# EAGLE library part RPI (library CameraTags)
Pi Header with different package variations
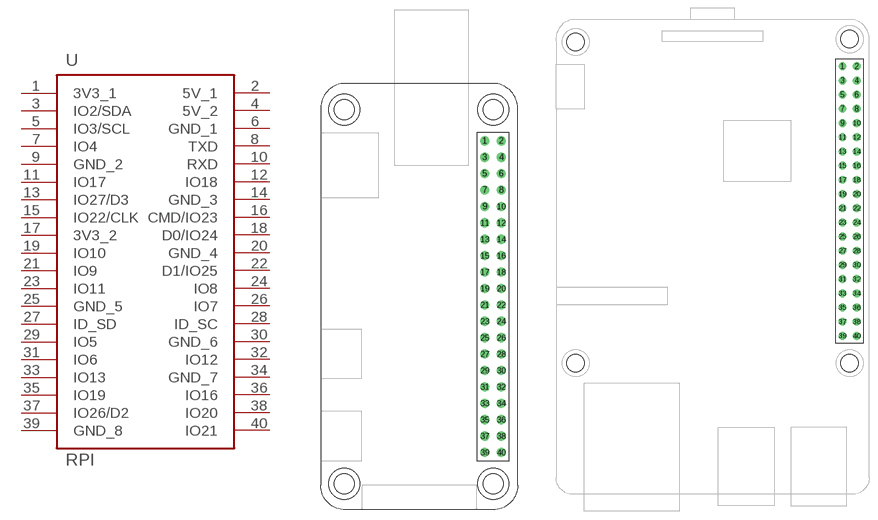
[diagram p14: symbol with the pads of PI_ZERO_W; footprints PI_ZERO_W, PI_3B]

Designator prefix U

## RPIPI_ZERO  [PI_ZERO_W]
1  3V3_1
2  5V_1
3  IO2/SDA
4  5V_2
5  IO3/SCL
6  GND_1
7  IO4
8  TXD
9  GND_2
10  RXD
11  IO17
12  IO18
13  IO27/D3
14  GND_3
15  IO22/CLK
16  CMD/IO23
17  3V3_2
18  D0/IO24
19  IO10
20  GND_4
21  IO9
22  D1/IO25
23  IO11
24  IO8
25  GND_5
26  IO7
27  ID_SD
28  ID_SC
29  IO5
30  GND_6
31  IO6
32  IO12
33  IO13
34  GND_7
35  IO19
36  IO16
37  IO26/D2
38  IO20
39  GND_8
40  IO21

## RPIPI_3B+  [PI_3B]
Pads as for PI_ZERO_W

## RPIPI_3A+  [PI_3A+]
Pads as for PI_ZERO_W

## Footprint PI_ZERO_W (pad centres in mm)
Raspberry Pi Zero
drill 0.8 pad 1.422: 1 -1.27,24.13; 2 1.27,24.13; 3 -1.27,21.59; 4 1.27,21.59; 5 -1.27,19.05; 6 1.27,19.05; 7 -1.27,16.51; 8 1.27,16.51; 9 -1.27,13.97; 10 1.27,13.97; 11 -1.27,11.43; 12 1.27,11.43; 13 -1.27,8.89; 14 1.27,8.89; 15 -1.27,6.35; 16 1.27,6.35; 17 -1.27,3.81; 18 1.27,3.81; 19 -1.27,1.27; 20 1.27,1.27; 21 -1.27,-1.27; 22 1.27,-1.27; 23 -1.27,-3.81; 24 1.27,-3.81; 25 -1.27,-6.35; 26 1.27,-6.35; 27 -1.27,-8.89; 28 1.27,-8.89; 29 -1.27,-11.43; 30 1.27,-11.43; 31 -1.27,-13.97; 32 1.27,-13.97; 33 -1.27,-16.51; 34 1.27,-16.51; 35 -1.27,-19.05; 36 1.27,-19.05; 37 -1.27,-21.59; 38 1.27,-21.59; 39 -1.27,-24.13; 40 1.27,-24.13
hole 3.1 at 0,29
hole 3.1 at 0,-29
hole 3.1 at -23,29
hole 3.1 at -23,-29

## Footprint PI_3B (pad centres in mm)
Raspberry Pi 3B https://www.raspberrypi-spy.co.uk/2018/03/introducing-raspberry-pi-3-b-plus-computer/
drill 0.8 pad 1.422: 1 51.23,76.63; 2 53.77,76.63; 3 51.23,74.09; 4 53.77,74.09; 5 51.23,71.55; 6 53.77,71.55; 7 51.23,69.01; 8 53.77,69.01; 9 51.23,66.47; 10 53.77,66.47; 11 51.23,63.93; 12 53.77,63.93; 13 51.23,61.39; 14 53.77,61.39; 15 51.23,58.85; 16 53.77,58.85; 17 51.23,56.31; 18 53.77,56.31; 19 51.23,53.77; 20 53.77,53.77; 21 51.23,51.23; 22 53.77,51.23; 23 51.23,48.69; 24 53.77,48.69; 25 51.23,46.15; 26 53.77,46.15; 27 51.23,43.61; 28 53.77,43.61; 29 51.23,41.07; 30 53.77,41.07; 31 51.23,38.53; 32 53.77,38.53; 33 51.23,35.99; 34 53.77,35.99; 35 51.23,33.45; 36 53.77,33.45; 37 51.23,30.91; 38 53.77,30.91; 39 51.23,28.37; 40 53.77,28.37
hole 3.1 at 52.5,81.5
hole 3.1 at 52.5,23.5
hole 3.1 at 3.5,81
hole 3.1 at 3.5,23.5

## Footprint PI_3A+ (pad centres in mm)
Raspberry Pi 3 Model A+ https://www.buyapi.ca/product/raspberry-pi-3-model-a-plus-512mb-ram/
drill 0.9 pad 1.422: 1 51.23,56.63; 2 53.77,56.63; 3 51.23,54.09; 4 53.77,54.09; 5 51.23,51.55; 6 53.77,51.55; 7 51.23,49.01; 8 53.77,49.01; 9 51.23,46.47; 10 53.77,46.47; 11 51.23,43.93; 12 53.77,43.93; 13 51.23,41.39; 14 53.77,41.39; 15 51.23,38.85; 16 53.77,38.85; 17 51.23,36.31; 18 53.77,36.31; 19 51.23,33.77; 20 53.77,33.77; 21 51.23,31.23; 22 53.77,31.23; 23 51.23,28.69; 24 53.77,28.69; 25 51.23,26.15; 26 53.77,26.15; 27 51.23,23.61; 28 53.77,23.61; 29 51.23,21.07; 30 53.77,21.07; 31 51.23,18.53; 32 53.77,18.53; 33 51.23,15.99; 34 53.77,15.99; 35 51.23,13.45; 36 53.77,13.45; 37 51.23,10.91; 38 53.77,10.91; 39 51.23,8.37; 40 53.77,8.37